# Altium footprint library adafruit.PCBLIB: 643 footprints (part 12 of 41)
Each footprint in its own frame and in the unit in brackets; x right, y up, seen from the top. Pads: shape width x height; smd on the part's side, far side on the other; paste and mask are expansions set on the pad; w line width, h text height; cw(c..) or ccw(c..) is an arc to the next point about the centre after c.
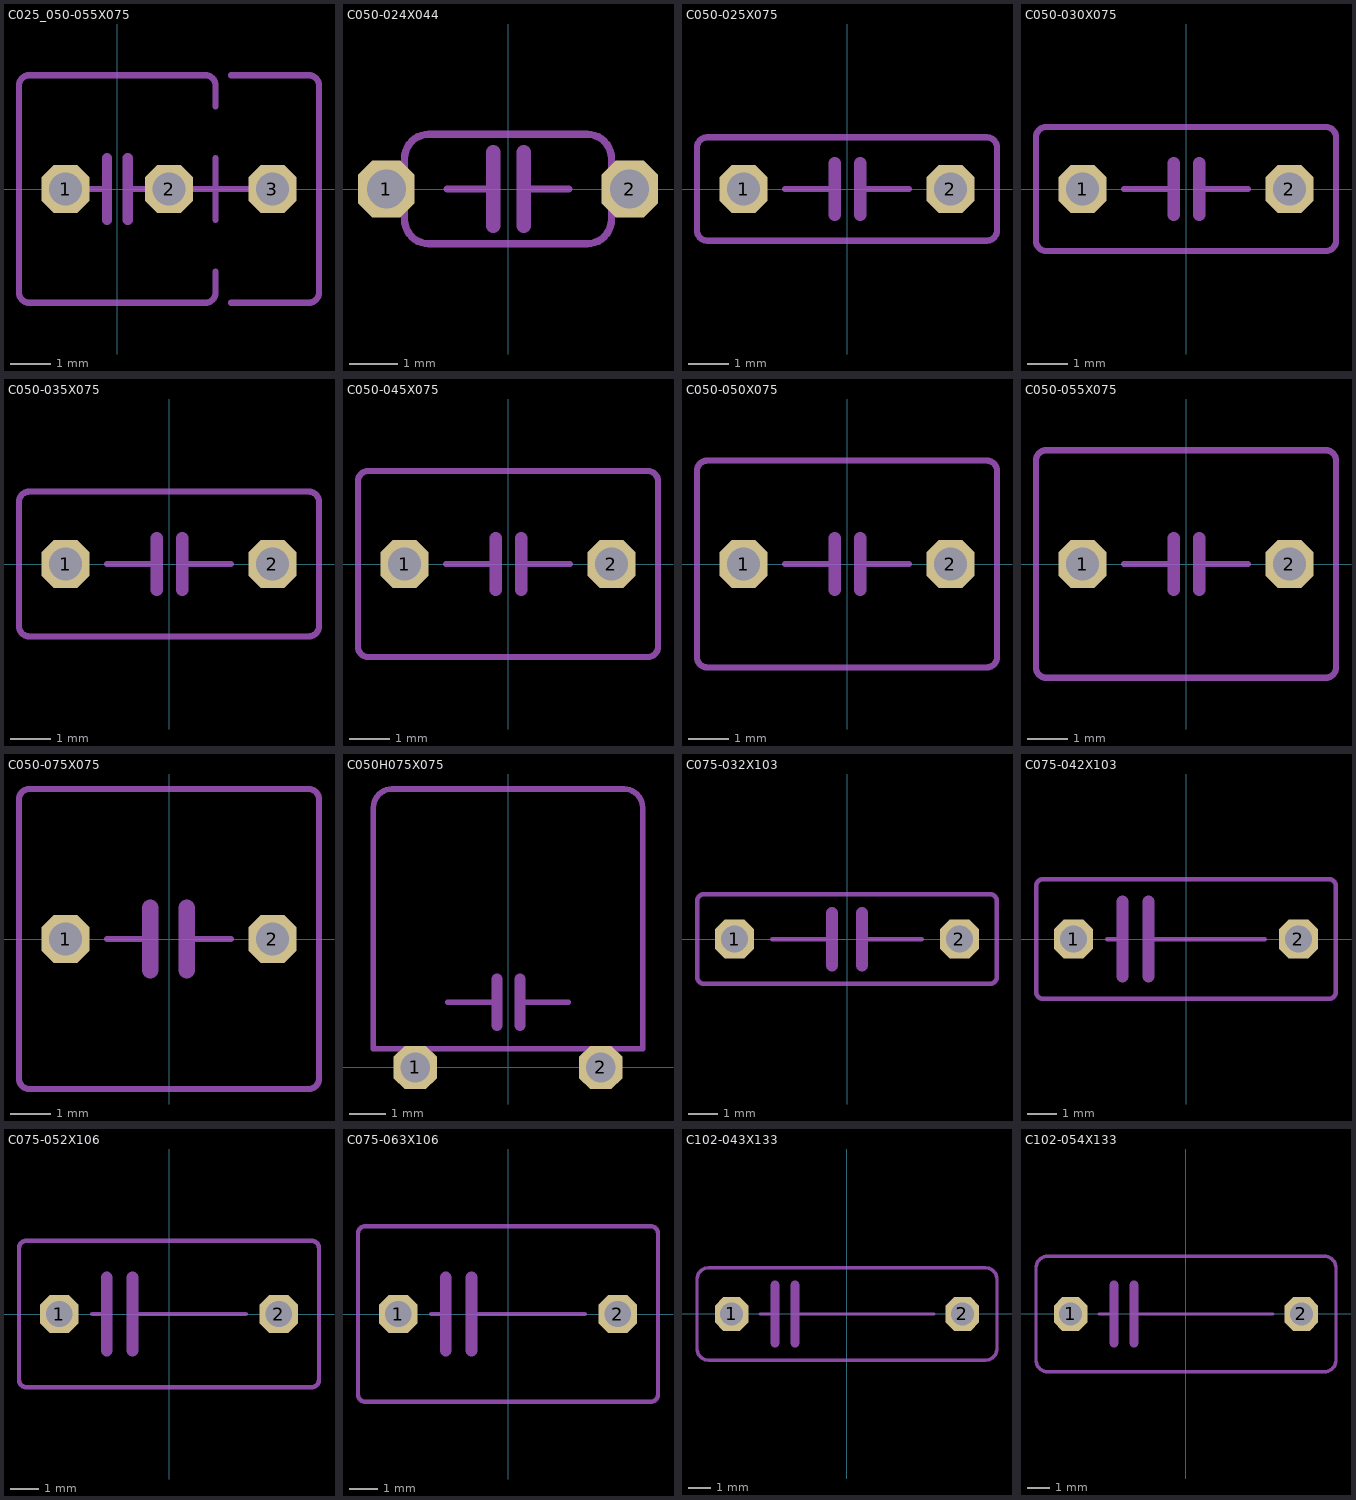
[diagram p11: the footprints below, top view; thin cyan lines are the x and y axes]

## C025_050-055X075 [mil]
pads (3):
  oct 46.48x46.48 hole 32: 1(-50,0) 2(50,0) 3(150,0)
Mechanical 2:
  lines w6: -15,0 -10,0 ; 10,0 15,0 ; 90,0 110,0 ; 95,-80 95,-100 cw(c85,-100) 85,-110 -85,-110 cw(c-85,-100) -95,-100 -95,100 cw(c-85,100) -85,110 85,110 cw(c85,100) 95,100 95,80 ; 95,-30 95,30 ; 110,-110 185,-110 ccw(c185,-100) 195,-100 195,100 ccw(c185,100) 185,110 110,110
  lines w10: -10,-30 -10,0 -10,30 ; 10,-30 10,0 10,30
Mechanical 18:
  lines w6: -30,0 -15,0 ; 15,0 30,0 ; 70,0 90,0 ; 110,0 130,0

## C050-024X044 [mil]
pads (2):
  oct 46.48x46.48 hole 32: 1(-100,0) 2(100,0)
Mechanical 2:
  lines w6: -85,-25 ccw(c-65,-25) -65,-45 65,-45 ccw(c65,-25) 85,-25 ; -85,25 cw(c-65,25) -65,45 65,45 cw(c65,25) 85,25 ; -50,0 -12,0 ; 13,0 50,0
  lines w12: -12,-30 -12,0 -12,30 ; 13,-30 13,0 13,30
Mechanical 18:
  rectangle: 85,-15 100,15
  rectangle: -100,-15 -85,15
  lines w6: -85,-25 -85,25 ; 85,-25 85,25

## C050-025X075 [mil]
pads (2):
  oct 46.48x46.48 hole 32: 1(-100,0) 2(100,0)
Mechanical 2:
  lines w6: -60,0 -12,0 ; 13,0 60,0 ; -145,-40 -145,40 cw(c-135,40) -135,50 135,50 cw(c135,40) 145,40 145,-40 cw(c135,-40) 135,-50 -135,-50 cw(c-135,-40) -145,-40
  lines w12: -12,-25 -12,0 -12,25 ; 13,-25 13,0 13,25

## C050-030X075 [mil]
pads (2):
  oct 46.48x46.48 hole 32: 1(-100,0) 2(100,0)
Mechanical 2:
  lines w6: -60,0 -12,0 ; 13,0 60,0 ; -145,-50 -145,50 cw(c-135,50) -135,60 135,60 cw(c135,50) 145,50 145,-50 cw(c135,-50) 135,-60 -135,-60 cw(c-135,-50) -145,-50
  lines w12: -12,-25 -12,0 -12,25 ; 13,-25 13,0 13,25

## C050-035X075 [mil]
pads (2):
  oct 46.48x46.48 hole 32: 1(-100,0) 2(100,0)
Mechanical 2:
  lines w6: -60,0 -12,0 ; 13,0 60,0 ; -145,-60 -145,60 cw(c-135,60) -135,70 135,70 cw(c135,60) 145,60 145,-60 cw(c135,-60) 135,-70 -135,-70 cw(c-135,-60) -145,-60
  lines w12: -12,-25 -12,0 -12,25 ; 13,-25 13,0 13,25

## C050-045X075 [mil]
pads (2):
  oct 46.48x46.48 hole 32: 1(-100,0) 2(100,0)
Mechanical 2:
  lines w6: -60,0 -12,0 ; 13,0 60,0 ; -145,-80 -145,80 cw(c-135,80) -135,90 135,90 cw(c135,80) 145,80 145,-80 cw(c135,-80) 135,-90 -135,-90 cw(c-135,-80) -145,-80
  lines w12: -12,-25 -12,0 -12,25 ; 13,-25 13,0 13,25

## C050-050X075 [mil]
pads (2):
  oct 46.48x46.48 hole 32: 1(-100,0) 2(100,0)
Mechanical 2:
  lines w6: -60,0 -12,0 ; 13,0 60,0 ; -145,-90 -145,90 cw(c-135,90) -135,100 135,100 cw(c135,90) 145,90 145,-90 cw(c135,-90) 135,-100 -135,-100 cw(c-135,-90) -145,-90
  lines w12: -12,-25 -12,0 -12,25 ; 13,-25 13,0 13,25

## C050-055X075 [mil]
pads (2):
  oct 46.48x46.48 hole 32: 1(-100,0) 2(100,0)
Mechanical 2:
  lines w6: -60,0 -12,0 ; 13,0 60,0 ; -145,-100 -145,100 cw(c-135,100) -135,110 135,110 cw(c135,100) 145,100 145,-100 cw(c135,-100) 135,-110 -135,-110 cw(c-135,-100) -145,-100
  lines w12: -12,-25 -12,0 -12,25 ; 13,-25 13,0 13,25

## C050-075X075 [mil]
pads (2):
  oct 46.48x46.48 hole 32: 1(-100,0) 2(100,0)
Mechanical 2:
  lines w6: -60,0 -18,0 ; 17,0 60,0 ; -145,-135 -145,135 cw(c-135,135) -135,145 135,145 cw(c135,135) 145,135 145,-135 cw(c135,-135) 135,-145 -135,-145 cw(c-135,-135) -145,-135
  lines w16: -18,-30 -18,0 -18,30 ; 17,-30 17,0 17,30

## C050H075X075 [mil]
pads (2):
  oct 46.48x46.48 hole 32: 1(-100,0) 2(100,0)
Mechanical 2:
  lines w6: -130,20 -145,20 -145,280 cw(c-125,280) -125,300 125,300 cw(c125,280) 145,280 145,20 130,20 ; -70,20 70,20 ; -65,70 -12,70 ; 13,70 65,70
  lines w12: -12,45 -12,70 -12,95 ; 13,45 13,70 13,95
Mechanical 18:
  rectangle: -110,5 -90,20
  rectangle: 90,5 110,20
  lines w6: -130,20 -70,20 ; 70,20 130,20
  lines w20: -100,0 -100,10 ; 100,0 100,10

## C075-032X103 [mil]
pads (2):
  oct 52.29x52.29 hole 36: 1(-150,0) 2(150,0)
Mechanical 2:
  lines w6: -100,0 -20,0 ; 20,0 100,0 ; -200,-50 -200,50 cw(c-190,50) -190,60 190,60 cw(c190,50) 200,50 200,-50 cw(c190,-50) 190,-60 -190,-60 cw(c-190,-50) -200,-50
  lines w16: -20,-35 -20,0 -20,35 ; 20,-35 20,0 20,35

## C075-042X103 [mil]
pads (2):
  oct 52.29x52.29 hole 36: 1(-150,0) 2(150,0)
Mechanical 2:
  lines w6: -105,0 -85,0 ; -50,0 105,0 ; -200,-70 -200,70 cw(c-190,70) -190,80 190,80 cw(c190,70) 200,70 200,-70 cw(c190,-70) 190,-80 -190,-80 cw(c-190,-70) -200,-70
  lines w16: -85,-50 -85,0 -85,50 ; -50,-50 -50,0 -50,50

## C075-052X106 [mil]
pads (2):
  oct 52.29x52.29 hole 36: 1(-150,0) 2(150,0)
Mechanical 2:
  lines w6: -105,0 -85,0 ; -50,0 105,0 ; -205,-90 -205,90 cw(c-195,90) -195,100 195,100 cw(c195,90) 205,90 205,-90 cw(c195,-90) 195,-100 -195,-100 cw(c-195,-90) -205,-90
  lines w16: -85,-50 -85,0 -85,50 ; -50,-50 -50,0 -50,50

## C075-063X106 [mil]
pads (2):
  oct 52.29x52.29 hole 36: 1(-150,0) 2(150,0)
Mechanical 2:
  lines w6: -105,0 -85,0 ; -50,0 105,0 ; -205,-110 -205,110 cw(c-195,110) -195,120 195,120 cw(c195,110) 205,110 205,-110 cw(c195,-110) 195,-120 -195,-120 cw(c-195,-110) -205,-110
  lines w16: -85,-50 -85,0 -85,50 ; -50,-50 -50,0 -50,50

## C102-043X133 [mil]
pads (2):
  oct 58.09x58.09 hole 40: 1(-200,0) 2(200,0)
Mechanical 2:
  lines w6: -150,0 -125,0 ; -90,0 150,0 ; -260,-60 -260,60 cw(c-240,60) -240,80 240,80 cw(c240,60) 260,60 260,-60 cw(c240,-60) 240,-80 -240,-80 cw(c-240,-60) -260,-60
  lines w16: -125,-50 -125,0 -125,50 ; -90,-50 -90,0 -90,50

## C102-054X133 [mil]
pads (2):
  oct 58.09x58.09 hole 40: 1(-200,0) 2(200,0)
Mechanical 2:
  lines w6: -150,0 -125,0 ; -90,0 150,0 ; -260,-80 -260,80 cw(c-240,80) -240,100 240,100 cw(c240,80) 260,80 260,-80 cw(c240,-80) 240,-100 -240,-100 cw(c-240,-80) -260,-80
  lines w16: -125,-50 -125,0 -125,50 ; -90,-50 -90,0 -90,50